# Altium schematic symbol library 4pin.SCHLIB: 1 symbol
Pins are listed as number, name and electrical type; pins without a type are passive.

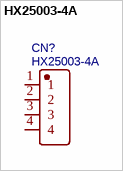
[diagram p0: symbol HX25003-4A]

## HX25003-4A
designator CN?
BOM_Manufacturer: HX(Zhejiang Yueqing Hongxing Elec); Contributor: LCSC; BOM_Supplier: LCSC; BOM_Supplier Part: C442301; BOM_Manufacturer Part: HX25003-4A; BOM_JLCPCB Part Class: Extended Part; spicePre: C; spiceSymbolName: HX25003-4A
footprint CONN-TH_4P-P2.50_HX25003-4A
pins: 1, 2, 3, 4